# Altium integrated library M2male_miniDP.IntLib: 4 symbols
Pins are listed as number, name and electrical type; pins without a type are passive.

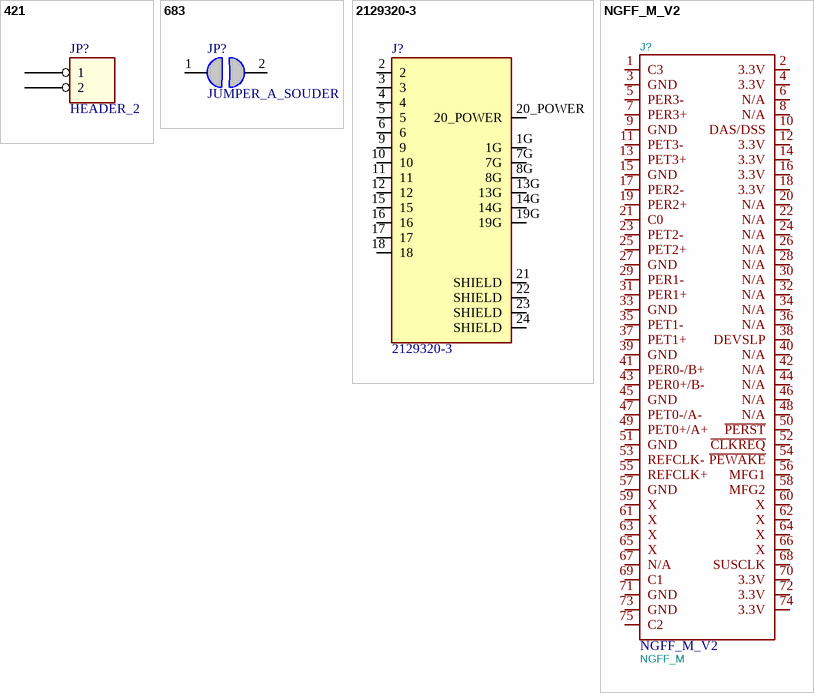
[diagram p0: symbols 421 to NGFF_M_V2]

## 421
designator JP?, comment HEADER_2
Barrette mâle 90 degrés 2P 2,54 mm; Manufacturer: TE Connectivity; Manufacturer P/N: 5-826631-0; ID: 421; Component: Connector; Component Type Category Connector Type: Barrette 2.54mm 90 degres; Pitch: 2,54mm; Supplier 1: Distrelec; Supplier Part Number 1: 122359; Supplier 2: Mouser; Supplier Part Number 2: 571-5-826631-0; RoHS Compliant: True; ComponentLink1Description: Datasheet; ComponentLink1URL: http://www.te.com/catalog/pn/en/5-826631-0; ComponentLink2Description: Supplier; ComponentLink2URL: http://www.distrelec.ch/fr/Barrette-%C3%A0-broches-50-p%C3%B4les-1-x50P-TE-Connectivity-5-826631-0/p/14371409?q=122359&page=1&origPos=1&origPageSize=10&simi=99.3
footprint Barette simple 2.54mm  2 POLES 90 degres MALE
pins: 1, 2

## 683
designator JP?, comment JUMPER_A_SOUDER
Pont à souder sur print; ID: 683; Component: Connector; Component Type Category Connector Type: Jumper à souder; Value: 0201; RoHS Compliant: False
footprint JUMPER_A_SOUDER (0201)
pins: 1, 2

## 2129320-3
designator J?
Conn Display Port RCP 20 POS 0.9mm/1.8mm Solder RA Thru-Hole 20 Terminal 1 Port T/R; Number_of_Positions: 20; Product_Type: Connector; MF: TE Connectivity; Centerline_Pitch: .6 mm[.02 in]; Value: *; Digi-Key_Part_Number: A120537CT-ND; Digi-Key_Purchase_URL: https://www.digikey.com/product-detail/en/te-connectivity-amp-connectors/2129320-3/A120537CT-ND/5021748?utm_source=snapeda&utm_medium=aggregator&utm_campaign=symbol; Package: None; SnapEDA_Link: https://www.snapeda.com/parts/2129320-3/TE%20Connectivity%20AMP%20Connectors/view-part/1192429/?ref=snap; TE_purchase_URL: https://www.te.com/usa-en/product-2129320-3.html?te_bu=Cor&te_type=disp&te_campaign=seda_glo_cor-seda-global-disp-prtnr-fy19-seda-model-bom-cta_sma-317_1&elqCampaignId=32493; MP: 2129320-3; EU_RoHS_Compliance: Compliant
footprint CONN_2129320-3
pins: 1G, 2, 3, 4, 5, 6, 7G, 8G, 9, 10, 11, 12, 13G, 14G, 15, 16, 17, 18, 19G, 20_POWER, 21 SHIELD, 22 SHIELD, 23 SHIELD, 24 SHIELD

## NGFF_M_V2
designator J?  value NGFF_M
footprint M.2-M-KEY-2280-V2 (M.2-KEY-M)
pins: 1 C3, 2 3.3V, 3 GND, 4 3.3V, 5 PER3-, 6 N/A, 7 PER3+, 8 N/A, 9 GND, 10 DAS/DSS, 11 PET3-, 12 3.3V, 13 PET3+, 14 3.3V, 15 GND, 16 3.3V, 17 PER2-, 18 3.3V, 19 PER2+, 20 N/A, 21 C0, 22 N/A, 23 PET2-, 24 N/A, 25 PET2+, 26 N/A, 27 GND, 28 N/A, 29 PER1-, 30 N/A, 31 PER1+, 32 N/A, 33 GND, 34 N/A, 35 PET1-, 36 N/A, 37 PET1+, 38 DEVSLP, 39 GND, 40 N/A, 41 PER0-/B+, 42 N/A, 43 PER0+/B-, 44 N/A, 45 GND, 46 N/A, 47 PET0-/A-, 48 N/A, 49 PET0+/A+, 50 ~{PERST}, 51 GND, 52 ~{CLKREQ}, 53 REFCLK-, 54 ~{PEWAKE}, 55 REFCLK+, 56 MFG1, 57 GND, 58 MFG2, 59 X, 60 X, 61 X, 62 X, 63 X, 64 X, 65 X, 66 X, 67 N/A, 68 SUSCLK, 69 C1, 70 3.3V, 71 GND, 72 3.3V, 73 GND, 74 3.3V, 75 C2